# Altium integrated library Displays.IntLib: 5 symbols
Pins are listed as number, name and electrical type; pins without a type are passive.

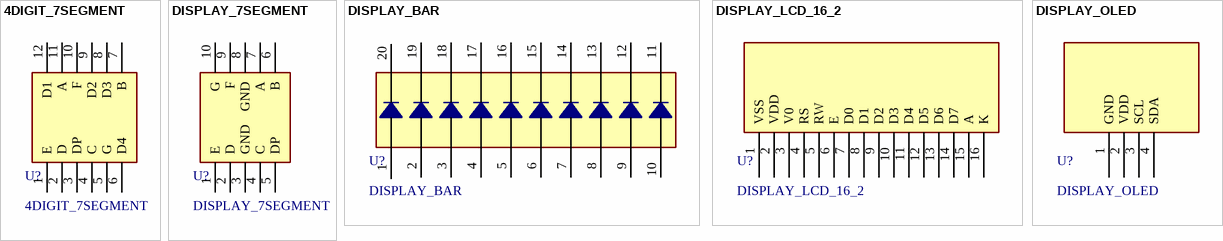
[diagram p0: symbols 4DIGIT_7SEGMENT to DISPLAY_OLED]

## 4DIGIT_7SEGMENT
designator U?
Display 4 Digits 7 Segments.
footprint 4DIGIT_7SEGMENT
pins: 1 E, 2 D, 3 DP, 4 C, 5 G, 6 D4, 7 B, 8 D3, 9 D2, 10 F, 11 A, 12 D1

## DISPLAY_7SEGMENT
designator U?
Display 1 Digit 7 Segments Common Cathode.
footprint DISPLAY_7SEGEMENT
pins: 1 E, 2 D, 3 GND, 4 C, 5 DP, 6 B, 7 A, 8 GND, 9 F, 10 G

## DISPLAY_BAR
designator U?
Display 10 Barras de LED.
footprint DISPLAY_BAR
pins: 1, 2, 3, 4, 5, 6, 7, 8, 9, 10, 11, 12, 13, 14, 15, 16, 17, 18, 19, 20

## DISPLAY_LCD_16_2
designator U?
Display LCD 16x2 I2C.
footprint DISPLAY_LCD_16_2
pins: 1 VSS, 2 VDD, 3 V0, 4 RS, 5 RW, 6 E, 7 D0, 8 D1, 9 D2, 10 D3, 11 D4, 12 D5, 13 D6, 14 D7, 15 A, 16 K

## DISPLAY_OLED
designator U?
Display Oled 128x64 0.96" I2C.
footprint DISPLAY_OLED
pins: 1 GND (hiz), 2 VDD (hiz), 3 SCL (hiz), 4 SDA (hiz)